# EAGLE library part TMS320F28034 (library TI (v6))
TMS320F2803x (Piccolo) 32-Bit High-Efficiency MCU Datasheet: http://www.ti.com/lit/ds/sprs584j/sprs584j.pdf Product page: http://www.ti.com/product/tms320f28034
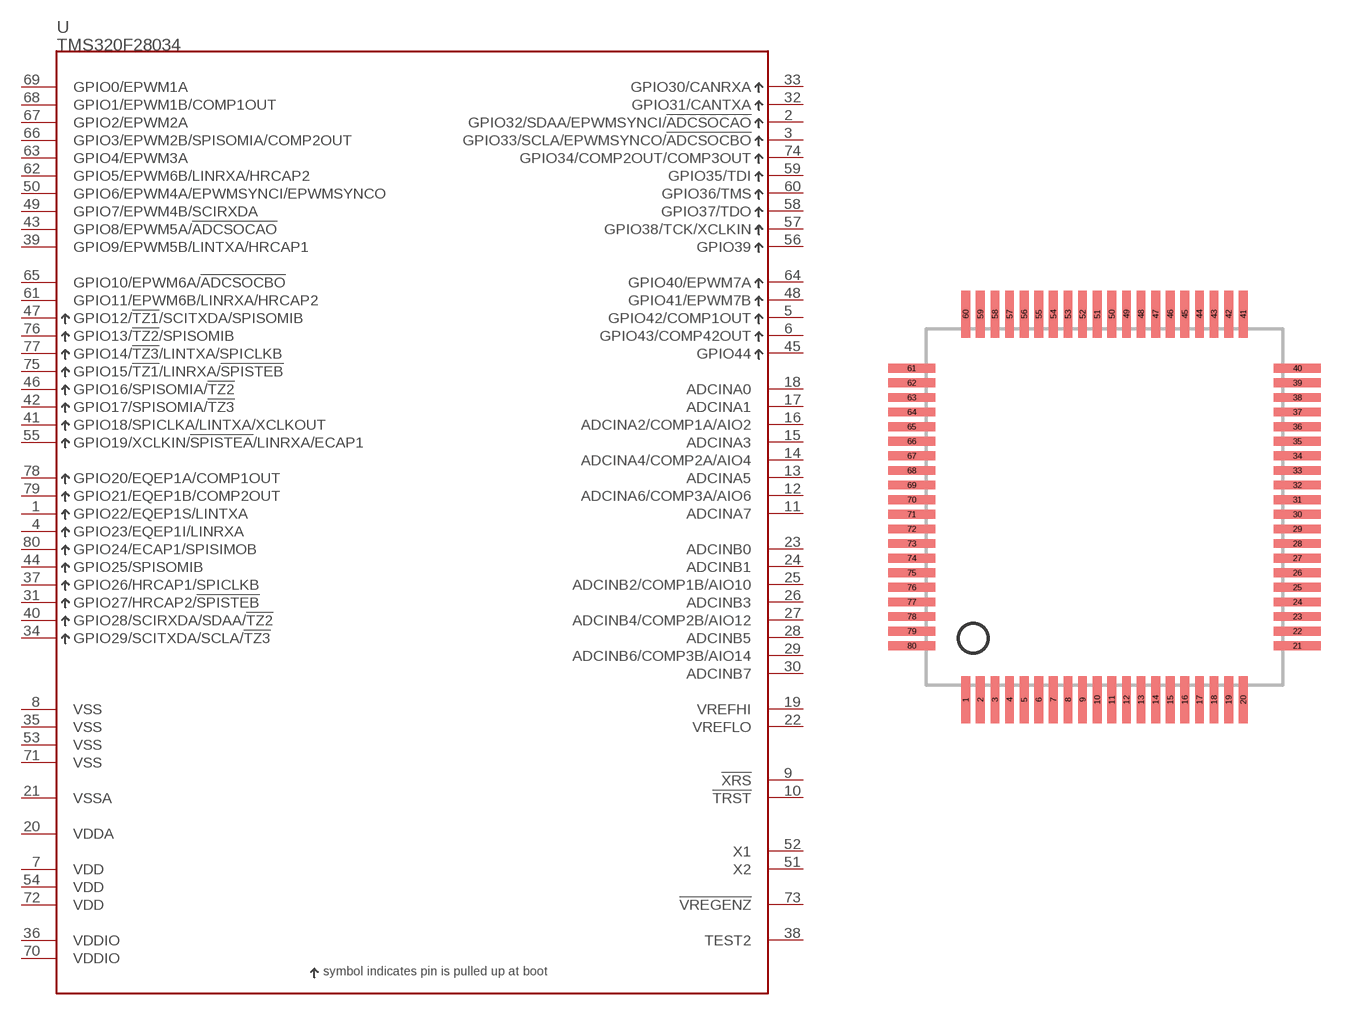
[diagram p5: symbol with the pads of PQFP-80_(S-PQFP-G80); footprint PQFP-80_(S-PQFP-G80)]

Designator prefix -

## TMS320F28034PNT  [PQFP-80_(S-PQFP-G80)]
1  GPIO22/EQEP1S/LINTXA  in
2  GPIO32/SDAA/EPWMSYNCI/!ADCSOCAO
3  GPIO33/SCLA/EPWMSYNCO/!ADCSOCBO
4  GPIO23/EQEP1I/LINRXA
5  GPIO42/COMP1OUT
6  GPIO43/COMP42OUT
7  VDD  pwr
8  VSS  pwr
9  !XRS
10  !TRST
11  ADCINA7  in
12  ADCINA6/COMP3A/AIO6
13  ADCINA5  in
14  ADCINA4/COMP2A/AIO4
15  ADCINA3  in
16  ADCINA2/COMP1A/AIO2
17  ADCINA1  in
18  ADCINA0  in
19  VREFHI  in
20  VDDA  pwr
21  VSSA  pwr
22  VREFLO  in
23  ADCINB0  in
24  ADCINB1  in
25  ADCINB2/COMP1B/AIO10  in
26  ADCINB3  in
27  ADCINB4/COMP2B/AIO12  in
28  ADCINB5  in
29  ADCINB6/COMP3B/AIO14  in
30  ADCINB7  in
31  GPIO27/HRCAP2/!SPISTEB
32  GPIO31/CANTXA
33  GPIO30/CANRXA
34  GPIO29/SCITXDA/SCLA/!TZ3
35  VSS  pwr
36  VDDIO  pwr
37  GPIO26/HRCAP1/SPICLKB
38  TEST2  nc
39  GPIO9/EPWM5B/LINTXA/HRCAP1
40  GPIO28/SCIRXDA/SDAA/!TZ2
41  GPIO18/SPICLKA/LINTXA/XCLKOUT
42  GPIO17/SPISOMIA/!TZ3
43  GPIO8/EPWM5A/!ADCSOCAO
44  GPIO25/SPISOMIB
45  GPIO44
46  GPIO16/SPISOMIA/!TZ2
47  GPIO12/!TZ1!/SCITXDA/SPISOMIB
48  GPIO41/EPWM7B
49  GPIO7/EPWM4B/SCIRXDA
50  GPIO6/EPWM4A/EPWMSYNCI/EPWMSYNCO
51  X2
52  X1
53  VSS  pwr
54  VDD  pwr
55  GPIO19/XCLKIN/!SPISTEA!/LINRXA/ECAP1
56  GPIO39
57  GPIO38/TCK/XCLKIN
58  GPIO37/TDO
59  GPIO35/TDI
60  GPIO36/TMS
61  GPIO11/EPWM6B/LINRXA/HRCAP2
62  GPIO5/EPWM6B/LINRXA/HRCAP2
63  GPIO4/EPWM3A
64  GPIO40/EPWM7A
65  GPIO10/EPWM6A/!ADCSOCBO
66  GPIO3/EPWM2B/SPISOMIA/COMP2OUT
67  GPIO2/EPWM2A
68  GPIO1/EPWM1B/COMP1OUT
69  GPIO0/EPWM1A
70  VDDIO  pwr
71  VSS  pwr
72  VDD  pwr
73  !VREGENZ
74  GPIO34/COMP2OUT/COMP3OUT
75  GPIO15/!TZ1!/LINRXA/!SPISTEB
76  GPIO13/!TZ2!/SPISOMIB
77  GPIO14/!TZ3!/LINTXA/SPICLKB
78  GPIO20/EQEP1A/COMP1OUT
79  GPIO21/EQEP1B/COMP2OUT
80  GPIO24/ECAP1/SPISIMOB

## Footprint PQFP-80_(S-PQFP-G80) (pad centres in mm)
smd 0.3 x 1.6: 1 -4.75,-6.6; 2 -4.25,-6.6; 3 -3.75,-6.6; 4 -3.25,-6.6; 5 -2.75,-6.6; 6 -2.25,-6.6; 7 -1.75,-6.6; 8 -1.25,-6.6; 9 -0.75,-6.6; 10 -0.25,-6.6; 11 0.25,-6.6; 12 0.75,-6.6; 13 1.25,-6.6; 14 1.75,-6.6; 15 2.25,-6.6; 16 2.75,-6.6; 17 3.25,-6.6; 18 3.75,-6.6; 19 4.25,-6.6; 20 4.75,-6.6; 41 4.75,6.6; 42 4.25,6.6; 43 3.75,6.6; 44 3.25,6.6; 45 2.75,6.6; 46 2.25,6.6; 47 1.75,6.6; 48 1.25,6.6; 49 0.75,6.6; 50 0.25,6.6; 51 -0.25,6.6; 52 -0.75,6.6; 53 -1.25,6.6; 54 -1.75,6.6; 55 -2.25,6.6; 56 -2.75,6.6; 57 -3.25,6.6; 58 -3.75,6.6; 59 -4.25,6.6; 60 -4.75,6.6
smd 1.6 x 0.3: 21 6.6,-4.75; 22 6.6,-4.25; 23 6.6,-3.75; 24 6.6,-3.25; 25 6.6,-2.75; 26 6.6,-2.25; 27 6.6,-1.75; 28 6.6,-1.25; 29 6.6,-0.75; 30 6.6,-0.25; 31 6.6,0.25; 32 6.6,0.75; 33 6.6,1.25; 34 6.6,1.75; 35 6.6,2.25; 36 6.6,2.75; 37 6.6,3.25; 38 6.6,3.75; 39 6.6,4.25; 40 6.6,4.75; 61 -6.6,4.75; 62 -6.6,4.25; 63 -6.6,3.75; 64 -6.6,3.25; 65 -6.6,2.75; 66 -6.6,2.25; 67 -6.6,1.75; 68 -6.6,1.25; 69 -6.6,0.75; 70 -6.6,0.25; 71 -6.6,-0.25; 72 -6.6,-0.75; 73 -6.6,-1.25; 74 -6.6,-1.75; 75 -6.6,-2.25; 76 -6.6,-2.75; 77 -6.6,-3.25; 78 -6.6,-3.75; 79 -6.6,-4.25; 80 -6.6,-4.75